# EAGLE library part XBEE_S2C_PTH (library dr-library)
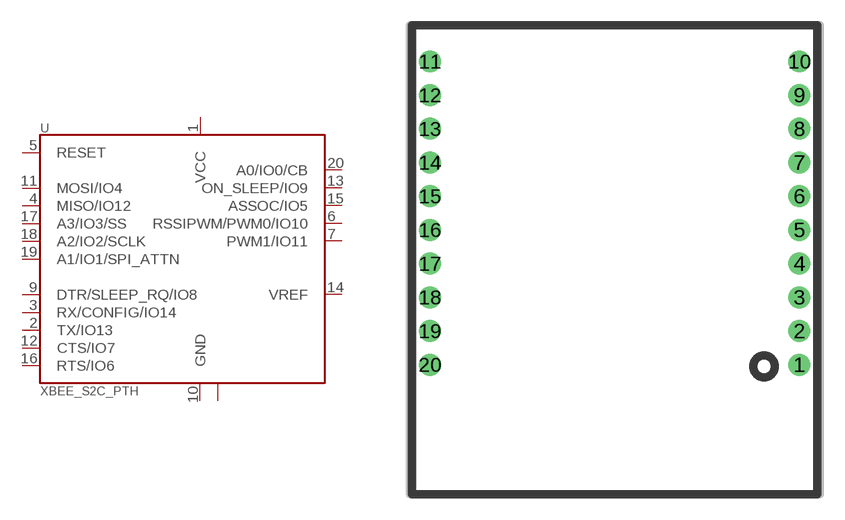
[diagram p0: symbol with the pads of XBEE_S2C_PTH; footprint XBEE_S2C_PTH]

Designator prefix U

## XBEE_S2C_PTHPTH  [XBEE_S2C_PTH]
1  VCC
2  TX/IO13
3  RX/CONFIG/IO14
4  MISO/IO12
5  RESET
6  RSSIPWM/PWM0/IO10
7  PWM1/IO11
8  N/C  nc
9  DTR/SLEEP_RQ/IO8
10  GND
11  MOSI/IO4
12  CTS/IO7
13  ON_SLEEP/IO9
14  VREF
15  ASSOC/IO5
16  RTS/IO6
17  A3/IO3/SS
18  A2/IO2/SCLK
19  A1/IO1/SPI_ATTN
20  A0/IO0/CB

## Footprint XBEE_S2C_PTH (pad centres in mm)
drill 0.8: 1 10.998,0.102; 2 10.998,2.108; 3 10.998,4.115; 4 10.998,6.121; 5 10.998,8.128; 6 10.998,10.135; 7 10.998,12.141; 8 10.998,14.148; 9 10.998,16.154; 10 10.998,18.161; 11 -10.998,18.161; 12 -10.998,16.154; 13 -10.998,14.148; 14 -10.998,12.141; 15 -10.998,10.135; 16 -10.998,8.128; 17 -10.998,6.121; 18 -10.998,4.115; 19 -10.998,2.108; 20 -10.998,0.102